# EAGLE library part SBH11-PBPC-D10-RA-BK (library KVB-connectors)
Connector Header Through Hole Right Angle 20 position 0.100" (2.54mm)
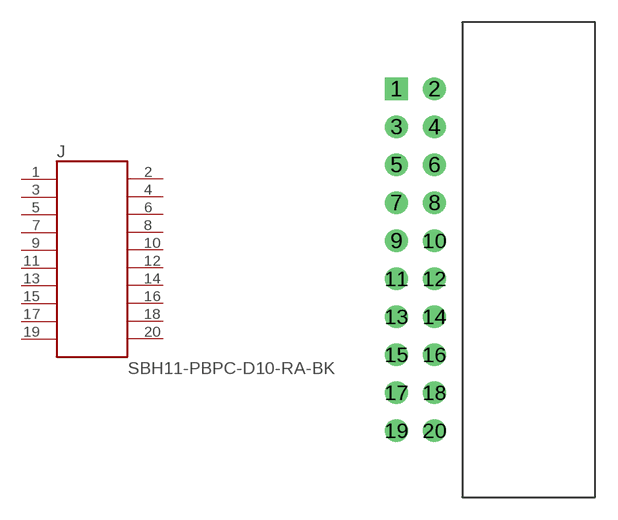
[diagram p32: symbol with the pads of SBH11-PBPC-D10-RA-BK; footprint SBH11-PBPC-D10-RA-BK]

Designator prefix J

## SBH11-PBPC-D10-RA-BK (MAN-PART_NUM: SBH11-PBPC-D10-RA-BK; MANUFACTURER: Sullins)  [SBH11-PBPC-D10-RA-BK]
1  P$1
2  P$2
3  P$3
4  P$4
5  P$5
6  P$6
7  P$7
8  P$8
9  P$9
10  P$10
11  P$11
12  P$12
13  P$13
14  P$14
15  P$15
16  P$16
17  P$17
18  P$18
19  P$19
20  P$20

## Footprint SBH11-PBPC-D10-RA-BK (pad centres in mm)
drill 1.016 square: 1 -13.284,11.43
drill 1.016: 2 -10.744,11.43; 3 -13.284,8.89; 4 -10.744,8.89; 5 -13.284,6.35; 6 -10.744,6.35; 7 -13.284,3.81; 8 -10.744,3.81; 9 -13.284,1.27; 10 -10.744,1.27; 11 -13.284,-1.27; 12 -10.744,-1.27; 13 -13.284,-3.81; 14 -10.744,-3.81; 15 -13.284,-6.35; 16 -10.744,-6.35; 17 -13.284,-8.89; 18 -10.744,-8.89; 19 -13.284,-11.43; 20 -10.744,-11.43